# Altium footprint library Molex_0705430038.PcbLib: 1 footprints
Each footprint in its own frame and in the unit in brackets; x right, y up, seen from the top. Pads: shape width x height; smd on the part's side, far side on the other; paste and mask are expansions set on the pad; w line width, h text height; cw(c..) or ccw(c..) is an arc to the next point about the centre after c.
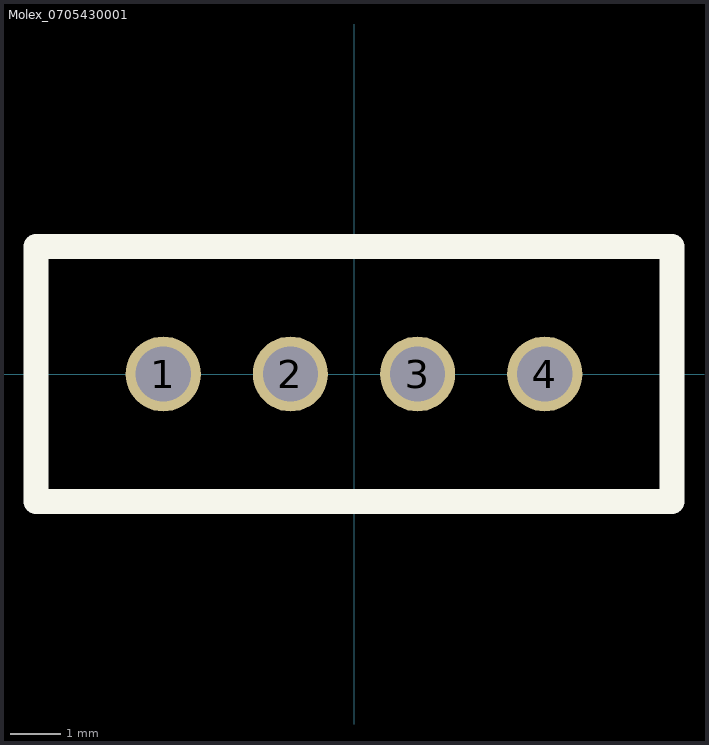
[diagram p0: the footprint, top view; thin cyan lines are the x and y axes]

## Molex_0705430001 [mm]
pads (4):
  round 1.5 hole 1.1: 1(-3.81,0) 2(-1.27,0) 3(1.27,0) 4(3.81,0)
Top Overlay:
  lines w0.5: -6.355,-2.55 -6.355,2.55 6.355,2.55 6.355,-2.55 -6.355,-2.55
3D body "705430038.stp": height 11.81, standoff -3.3, extent -6.35,-4.064 6.35,2.54
3D body: height 3.81, standoff -11.3, extent 0,0 0,0